# EAGLE library part DAC,SER,FDBK,14-BIT (library QuantumOptics)
DAC, serial, ext ref and opamp, 14-bit, such as Analog Devices AD5552.
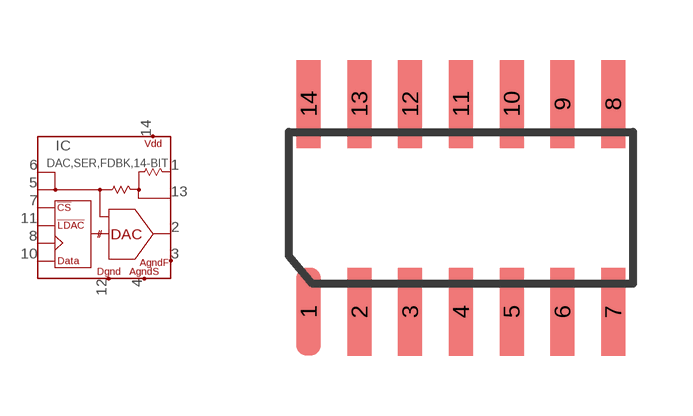
[diagram p168: symbol with the pads of SOIC-14; footprint SOIC-14]

Designator prefix IC

## DAC,SER,FDBK,14-BIT-SOIC14  [SOIC-14]
1  RFB
2  OUT  out
3  AGNDF
4  AGNDS
5  VREFS
6  VREFF
7  !CS  in
8  SCLK  in
10  SDATA  in
11  !LDAC  in
12  DGND
13  INV
14  VDD

## Footprint SOIC-14 (pad centres in mm)
Small Outline Package 14
smd 0.6 x 2.2: 1 -3.81,-2.6; 2 -2.54,-2.6; 3 -1.27,-2.6; 4 0,-2.6; 5 1.27,-2.6; 6 2.54,-2.6; 7 3.81,-2.6; 8 3.81,2.6; 9 2.54,2.6; 10 1.27,2.6; 11 0,2.6; 12 -1.27,2.6; 13 -2.54,2.6; 14 -3.81,2.6